# Altium integrated library ROX3SJ220R.IntLib: 1 symbol
Pins are listed as number, name and electrical type; pins without a type are passive.

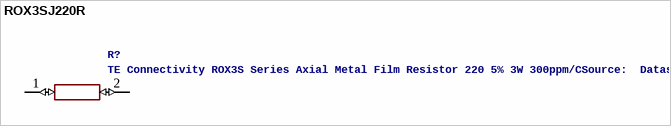
[diagram p0: symbol ROX3SJ220R]

## ROX3SJ220R
designator R?, comment TE Connectivity ROX3S Series Axial Metal Film Resistor 220 5% 3W 300ppm/CSource:  Datasheet
GateName_1: G$1; SymbolName_1: ROX3SJ220R; Allied_Number: 70063816; LibraryName: ROX3SJ220R; DeviceSetName: ROX3SJ220R; Package: RESAD3800W75L1600D550; Manufacturer_Name: TE Connectivity; Manufacturer_Part_Number: ROX3SJ220R; RS_Part_Number: 1615998; RS_Price-Stock: http://uk.rs-online.com/web/p/products/1615998; Allied_Price-Stock: https://www.alliedelec.com/te-connectivity-rox3sj220r/70063816/; Arrow_Part_Number: ROX3SJ220R; Arrow_Price-Stock: https://www.arrow.com/en/products/rox3sj220r/te-connectivity; Description: TE Connectivity ROX3S Series Axial Metal Film Resistor 220 5% 3W 300ppm/C; Height: mm
footprint RESAD3800W75L1600D550
pins: 1 (io), 2 (io)